# Altium schematic symbol library CN 3POS TH JSTXH.Schlib: 1 symbol
Pins are listed as number, name and electrical type; pins without a type are passive.

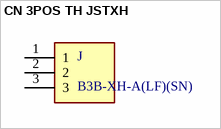
[diagram p0: symbol CN 3POS TH JSTXH]

## CN 3POS TH JSTXH
designator J, comment B3B-XH-A(LF)(SN)
CN 3POS TH JST XH; MF: JST Sales; Package: None; SnapEDA_Link: https://www.snapeda.com/parts/B3B-XH-A(LF)(SN)/JST%20Sales%20America%20Inc./view-part/231271/?ref=snap; MP: B3B-XH-A(LF)(SN); Price: None; Value: *
footprint JST_B3B-XH-A(LF)(SN)
pins: 1, 2, 3